# EAGLE library part HOLYIOT (library holyiot)
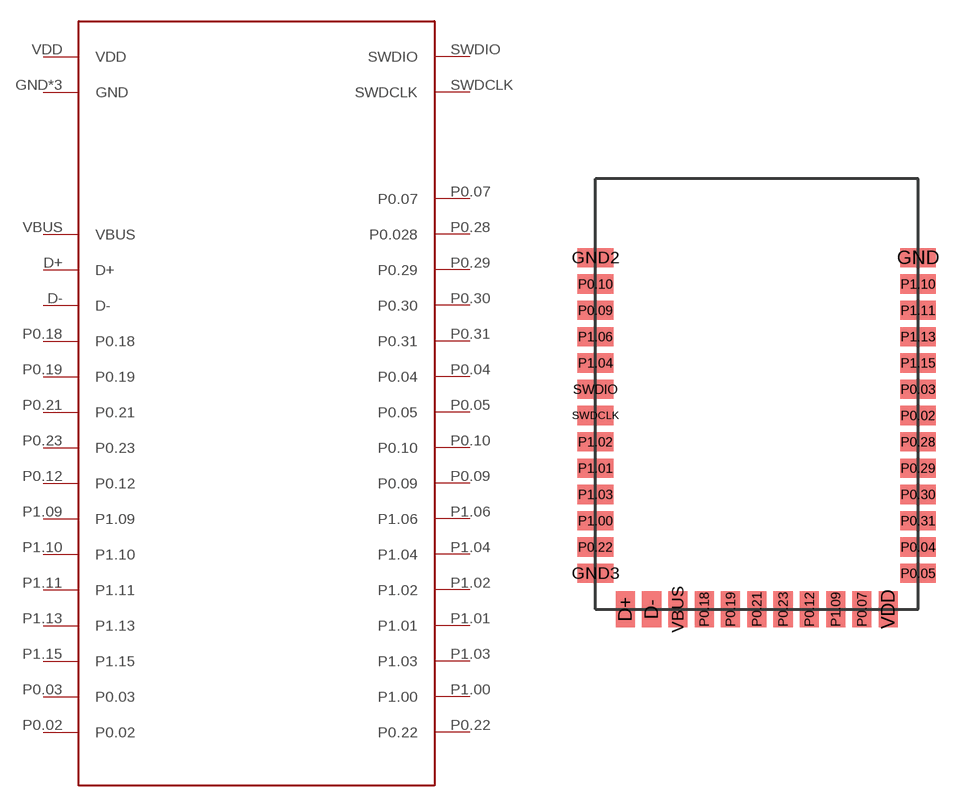
[diagram p0: symbol with the pads of HOLYIOT; footprint HOLYIOT]

Designator prefix -

## HOLYIOT  [HOLYIOT]
D+  D+
D-  D-
GND  GND
GND2  GND
GND3  GND
P0.02  P0.02
P0.03  P0.03
P0.04  P0.04
P0.05  P0.05
P0.07  P0.07
P0.09  P0.09
P0.10  P0.10
P0.12  P0.12
P0.18  P0.18
P0.19  P0.19
P0.21  P0.21
P0.22  P0.22
P0.23  P0.23
P0.28  P0.028
P0.29  P0.29
P0.30  P0.30
P0.31  P0.31
P1.00  P1.00
P1.01  P1.01
P1.02  P1.02
P1.03  P1.03
P1.04  P1.04
P1.06  P1.06
P1.09  P1.09
P1.10  P1.10
P1.11  P1.11
P1.13  P1.13
P1.15  P1.15
SWDCLK  SWDCLK
SWDIO  SWDIO
VBUS  VBUS
VDD  VDD

## Footprint HOLYIOT (pad centres in mm)
smd 0.8 x 1.5: D+ -5.5,0; D- -4.4,0; P0.07 4.4,0; P0.12 2.2,0; P0.18 -2.2,0; P0.19 -1.1,0; P0.21 0,0; P0.23 1.1,0; P1.09 3.3,0; VBUS -3.3,0; VDD 5.5,0
smd 1.5 x 0.8: GND 6.75,14.7; GND2 -6.75,14.7; GND3 -6.75,1.5; P0.02 6.75,8.1; P0.03 6.75,9.2; P0.04 6.75,2.6; P0.05 6.75,1.5; P0.09 -6.75,12.5; P0.10 -6.75,13.6; P0.22 -6.75,2.6; P0.28 6.75,7; P0.29 6.75,5.9; P0.30 6.75,4.8; P0.31 6.75,3.7; P1.00 -6.75,3.7; P1.01 -6.75,5.9; P1.02 -6.75,7; P1.03 -6.75,4.8; P1.04 -6.75,10.3; P1.06 -6.75,11.4; P1.10 6.75,13.6; P1.11 6.75,12.5; P1.13 6.75,11.4; P1.15 6.75,10.3; SWDCLK -6.75,8.1; SWDIO -6.75,9.2